# EAGLE library part 74F04 (library A3660)
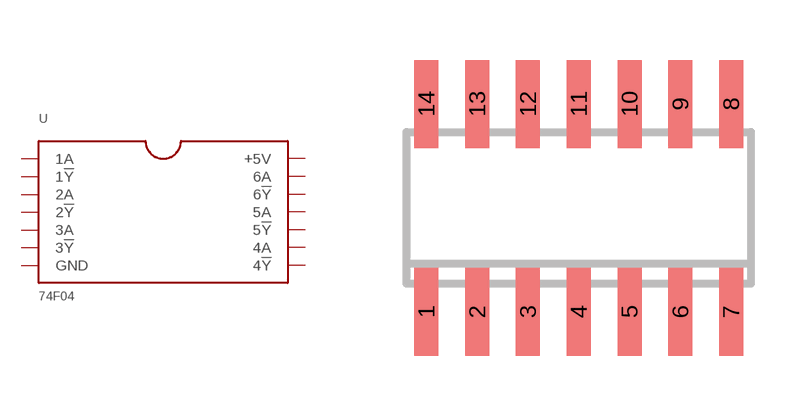
[diagram p13: symbol with the pads of 74F04; footprint 74F04]

Designator prefix -

## 74F04  [74F04]
1  1A
2  1!Y
3  2A
4  2!Y
5  3A
6  3!Y
7  GND
8  4!Y
9  4A
10  5!Y
11  5A
12  6!Y
13  6A
14  +5V  pwr

## Footprint 74F04 (pad centres in mm)
smd 0.6 x 2.2: 1 -3.175,-2.6; 2 -1.905,-2.6; 3 -0.635,-2.6; 4 0.635,-2.6; 5 1.905,-2.6; 6 3.175,-2.6; 7 4.445,-2.6; 8 4.445,2.6; 9 3.175,2.6; 10 1.905,2.6; 11 0.635,2.6; 12 -0.635,2.6; 13 -1.905,2.6; 14 -3.175,2.6